# Altium schematic symbol library NBIoT.SchLib: 14 symbols
Pins are listed as number, name and electrical type; pins without a type are passive.

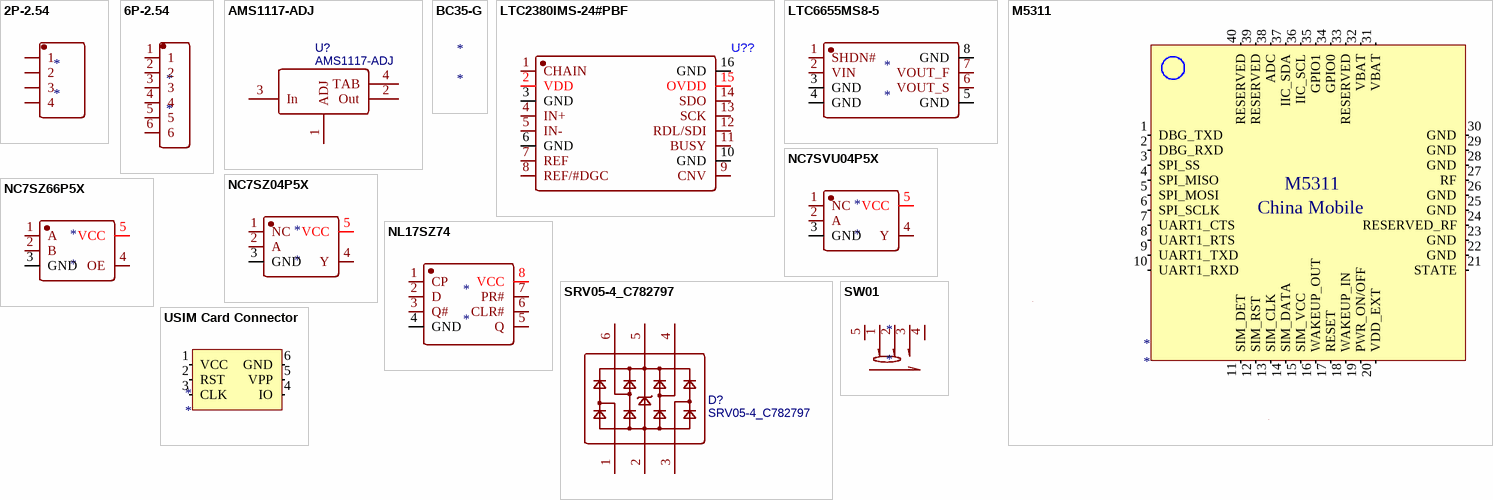
[diagram p0: symbols 2P-2.54 to USIM Card Connector]

## 2P-2.54
designator *
footprint HDR-TH_4P-P2.54-V
pins: 1, 2, 3, 4

## 6P-2.54
designator *
footprint HDR-TH_6P-P2.54-V
pins: 1, 2, 3, 4, 5, 6

## AMS1117-ADJ
designator U?
BOM_Manufacturer: AMS; sourceId: 0btnFXRxP; Contributor: GerryChen; SMT Type: Extend; BOM_Supplier: LCSC; BOM_Manufacturer Part: AMS1117-ADJ; image: //image.lceda.cn/szlcsc/C6188.jpg; BOM_Supplier Part: C6188; BOM_JLCPCB SMD: Yes; spicePre: U; spiceSymbolName: AMS1117-ADJ
footprint SOT-223_L6.7-W3.5-P2.30-BR
pins: 1 ADJ, 2 Out, 3 In, 4 TAB

## BC35-G
designator *

## LTC2380IMS-24#PBF
designator U??
pins: 1 CHAIN, 2 VDD, 3 GND, 4 IN+, 5 IN-, 6 GND, 7 REF, 8 REF/#DGC, 9 CNV, 10 GND, 11 BUSY, 12 RDL/SDI, 13 SCK, 14 SDO, 15 OVDD, 16 GND

## LTC6655MS8-5
designator *
pins: 1 SHDN#, 2 VIN, 3 GND, 4 GND, 5 GND, 6 VOUT_S, 7 VOUT_F, 8 GND

## M5311
designator *
footprint M5311
pins: 1 DBG_TXD (io), 2 DBG_RXD (io), 3 SPI_SS (io), 4 SPI_MISO (io), 5 SPI_MOSI (io), 6 SPI_SCLK (io), 7 UART1_CTS (io), 8 UART1_RTS (io), 9 UART1_TXD (io), 10 UART1_RXD (io), 11 SIM_DET (io), 12 SIM_RST (io), 13 SIM_CLK (io), 14 SIM_DATA (io), 15 SIM_VCC (io), 16 WAKEUP_OUT (io), 17 RESET (io), 18 WAKEUP_IN (io), 19 PWR_ON/OFF (io), 20 VDD_EXT (io), 21 STATE (io), 22 GND (io), 23 GND (io), 24 RESERVED_RF (io), 25 GND (io), 26 GND (io), 27 RF (io), 28 GND (io), 29 GND (io), 30 GND (io), 31 VBAT (io), 32 VBAT (io), 33 RESERVED (io), 34 GPIO0 (io), 35 GPIO1 (io), 36 IIC_SCL (io), 37 IIC_SDA (io), 38 ADC (io), 39 RESERVED (io), 40 RESERVED (io)
text: China Mobile

## NC7SVU04P5X
designator *
footprint SC-70-5_L2.1-W1.3-P0.65-LS2.1-BL
pins: 1 NC, 2 A, 3 GND, 4 Y, 5 VCC

## NC7SZ04P5X
designator *
footprint SC-70-5_L2.1-W1.3-P0.65-LS2.1-BR
pins: 1 NC, 2 A, 3 GND, 4 Y, 5 VCC

## NC7SZ66P5X
designator *
footprint SC-70-5_L2.1-W1.3-P0.65-LS2.1-BL
pins: 1 A, 2 B, 3 GND, 4 OE, 5 VCC

## NL17SZ74
designator *
footprint US-8_L2.4-W2.1-P0.50-LS3.2-BR
pins: 1 CP, 2 D, 3 Q#, 4 GND, 5 Q, 6 CLR#, 7 PR#, 8 VCC

## SRV05-4_C782797
designator D?
BOM_Manufacturer: SEMBO; Contributor: LCSC; BOM_Supplier: LCSC; BOM_Supplier Part: C782797; BOM_Manufacturer Part: SRV05-4; spicePre: D; spiceSymbolName: SRV05-4_C782797
footprint SOT-23-6_L2.9-W1.6-P0.95-LS2.8-BR
pins: 1, 2, 3, 4, 5, 6

## SW01
designator *
footprint SW-TH_SSSU011700
pins: 1, 2, 3, 4, 5

## USIM Card Connector
designator *
footprint SIM-SMD_SMO-1512
pins: 1 VCC (io), 2 RST (io), 3 CLK (io), 4 IO (io), 5 VPP (io), 6 GND (io)